# Altium footprint library Agilent LED Display 7-Segment, 4-Digit.PcbLib: 4 footprints
Each footprint in its own frame and in the unit in brackets; x right, y up, seen from the top. Pads: shape width x height; smd on the part's side, far side on the other; paste and mask are expansions set on the pad; w line width, h text height; cw(c..) or ccw(c..) is an arc to the next point about the centre after c.
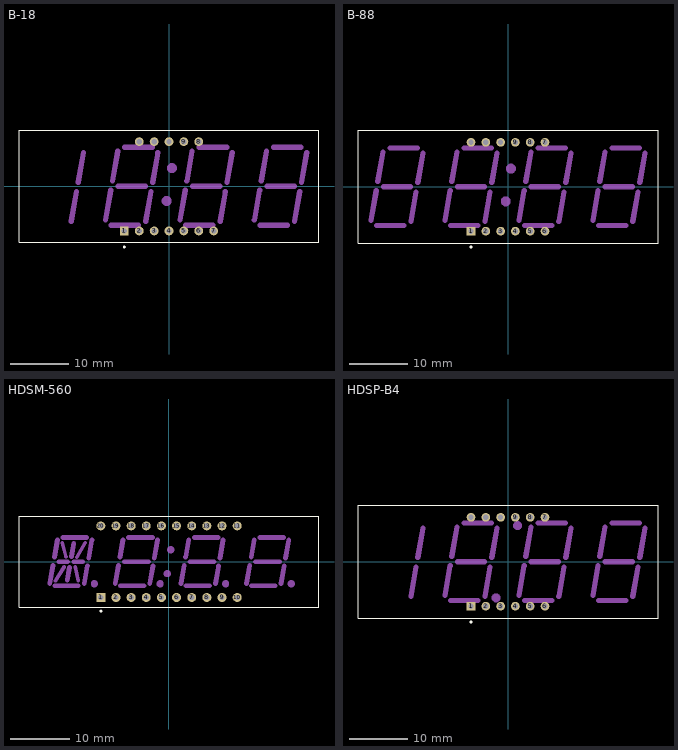
[diagram p0: the footprints below, top view; thin cyan lines are the x and y axes]

## B-18 [mm] "LED, 7-Segment Display, 14.22 mm, Four Digit, 18:88; 12 Leads; Row Space 15.24 mm; Pitch 2.54 mm"
height 8.26
pads (12):
  rect 1.5x1.5 hole 0.9: 1(-7.62,-7.62)
  round 1.5 hole 0.9: 2(-5.08,-7.62) 3(-2.54,-7.62) 4(0,-7.62) 5(2.54,-7.62) 6(5.08,-7.62) 7(7.62,-7.62) 8(5.08,7.62) 9(2.54,7.62) 10(0,7.62) 11(-2.54,7.62) 12(-5.08,7.62)
Top Overlay:
  circle w0.25: c-7.62,-10.35 r0.125
  lines w0.2: -25.6,-9.55 -25.6,9.55 25.6,9.55 25.6,-9.55 -25.6,-9.55
Mechanical 1:
  circle w1.4: c0.505,3.1 r0.15
  circle w1.4: c-0.395,-2.5 r0.15
  lines w0.9: -16.67,-5.95 -15.78,-0.9 ; -15.49,0.71 -14.6,5.76 ; -10.83,-5.76 -9.93,-0.69 ; -9.87,-6.66 -5.2,-6.67 ; -9.65,0.9 -8.76,5.96 ; -8.69,0 -4.03,0 ; -7.53,6.66 -2.86,6.66 ; -3.97,-5.95 -3.08,-0.9 ; -2.79,0.71 -1.9,5.76 ; 1.87,-5.76 2.77,-0.69 ; 2.83,-6.66 7.5,-6.67 ; 3.05,0.9 3.94,5.96 ; 4.01,0 8.67,0 ; 5.17,6.66 9.84,6.66 ; 8.73,-5.95 9.62,-0.9 ; 9.91,0.71 10.8,5.76 ; 14.57,-5.76 15.47,-0.69 ; 15.53,-6.66 20.2,-6.67 ; 15.75,0.9 16.64,5.96 ; 16.71,0 21.37,0 ; 17.87,6.66 22.54,6.66 ; 21.43,-5.95 22.32,-0.9 ; 22.61,0.71 23.5,5.76

## B-88 [mm] "LED, 7-Segment Display, 14.22 mm, Four Digit, 88:88; 12 Leads; Row Space 15.24 mm; Pitch 2.54 mm"
height 8.26
pads (12):
  rect 1.5x1.5 hole 0.9: 1(-6.35,-7.62)
  round 1.5 hole 0.9: 2(-3.81,-7.62) 3(-1.27,-7.62) 4(1.27,-7.62) 5(3.81,-7.62) 6(6.35,-7.62) 7(6.35,7.62) 8(3.81,7.62) 9(1.27,7.62) 10(-1.27,7.62) 11(-3.81,7.62) 12(-6.35,7.62)
Top Overlay:
  circle w0.25: c-6.35,-10.35 r0.125
  lines w0.2: -25.75,-9.7 25.75,-9.7 25.75,9.7 -25.75,9.7 -25.75,-9.7
Mechanical 1:
  circle w1.4: c-0.395,-2.5 r0.15
  circle w1.4: c0.505,3.1 r0.15
  lines w0.9: -23.53,-5.76 -22.63,-0.69 ; -22.57,-6.66 -17.9,-6.67 ; -22.35,0.9 -21.46,5.96 ; -21.39,0 -16.73,0 ; -20.23,6.66 -15.56,6.66 ; -16.67,-5.95 -15.78,-0.9 ; -15.49,0.71 -14.6,5.76 ; -10.83,-5.76 -9.93,-0.69 ; -9.87,-6.66 -5.2,-6.67 ; -9.65,0.9 -8.76,5.96 ; -8.69,0 -4.03,0 ; -7.53,6.66 -2.86,6.66 ; -3.97,-5.95 -3.08,-0.9 ; -2.79,0.71 -1.9,5.76 ; 1.87,-5.76 2.77,-0.69 ; 2.83,-6.66 7.5,-6.67 ; 3.05,0.9 3.94,5.96 ; 4.01,0 8.67,0 ; 5.17,6.66 9.84,6.66 ; 8.73,-5.95 9.62,-0.9 ; 9.91,0.71 10.8,5.76 ; 14.57,-5.76 15.47,-0.69 ; 15.53,-6.66 20.2,-6.67 ; 15.75,0.9 16.64,5.96 ; 16.71,0 21.37,0 ; 17.87,6.66 22.54,6.66 ; 21.43,-5.95 22.32,-0.9 ; 22.61,0.71 23.5,5.76

## HDSM-560 [mm] "LED, 7-Segment Display, 8.9 mm, Four Digit; 20 Leads; Row Space 12 mm; Pitch 2.54 mm"
height 15.75
pads (20):
  rect 1.5x1.5 hole 0.9: 1(-11.43,-6)
  round 1.5 hole 0.9: 2(-8.89,-6) 3(-6.35,-6) 4(-3.81,-6) 5(-1.27,-6) 6(1.27,-6) 7(3.81,-6) 8(6.35,-6) 9(8.89,-6) 10(11.43,-6) 11(11.43,6) 12(8.89,6) 13(6.35,6) 14(3.81,6) 15(1.27,6) 16(-1.27,6) 17(-3.81,6) 18(-6.35,6) 19(-8.89,6) 20(-11.43,6)
Top Overlay:
  circle w0.25: c-11.43,-8.3 r0.125
  lines w0.2: -25.15,-7.65 -25.15,7.65 25.15,7.65 25.15,-7.65 -25.15,-7.65
Mechanical 1:
  circle w1: c20.5,-3.7 r0.1
  circle w1: c9.5,-3.7 r0.1
  circle w1: c-12.5,-3.7 r0.1
  circle w1: c-1.5,-3.7 r0.1
  circle w1: c-0.3,-2 r0.1
  circle w1: c0.3,2 r0.1
  lines w0.6: -19.034,-3.191 -17.564,-0.855 ; -17.92,3.166 -17.267,0.812 ; -15.737,-0.853 -15.184,-3.199 ; -15.451,0.777 -14.06,3.158
  lines w0.8: -19.997,-3.644 -19.453,-0.589 ; -19.212,0.795 -18.707,3.668 ; -19.165,-4.05 -15.201,-4.05 ; -18.488,0 -17,0 ; -17.778,4.05 -13.789,4.05 ; -17.067,-3.1 -16.673,-0.95 ; -16.345,0.869 -15.952,3.074 ; -15.987,0 -14.45,0 ; -14.214,-3.647 -13.683,-0.68 ; -13.465,0.587 -12.93,3.65 ; -8.997,-3.644 -8.453,-0.589 ; -8.212,0.795 -7.707,3.668 ; -8.165,-4.05 -4.201,-4.05 ; -7.488,0 -3.45,0 ; -6.778,4.05 -2.789,4.05 ; -3.214,-3.647 -2.683,-0.68 ; -2.465,0.587 -1.93,3.65 ; 2.003,-3.644 2.547,-0.589 ; 2.788,0.795 3.293,3.668 ; 2.835,-4.05 6.799,-4.05 ; 3.512,0 7.55,0 ; 4.222,4.05 8.211,4.05 ; 7.786,-3.647 8.317,-0.68 ; 8.535,0.587 9.07,3.65 ; 13.003,-3.644 13.547,-0.589 ; 13.788,0.795 14.293,3.668 ; 13.835,-4.05 17.799,-4.05 ; 14.512,0 18.55,0 ; 15.222,4.05 19.211,4.05 ; 18.786,-3.647 19.317,-0.68 ; 19.535,0.587 20.07,3.65

## HDSP-B4 [mm] "LED, 7-Segment Display, 14.22 mm, Four Digit, 18:88; 12 Leads; Row Space 15.24 mm; Pitch 2.54 mm"
height 8.26
pads (12):
  rect 1.5x1.5 hole 0.9: 1(-6.35,-7.62)
  round 1.5 hole 0.9: 2(-3.81,-7.62) 3(-1.27,-7.62) 4(1.27,-7.62) 5(3.81,-7.62) 6(6.35,-7.62) 7(6.35,7.62) 8(3.81,7.62) 9(1.27,7.62) 10(-1.27,7.62) 11(-3.81,7.62) 12(-6.35,7.62)
Top Overlay:
  circle w0.25: c-6.35,-10.35 r0.125
  lines w0.2: -25.75,-9.7 25.75,-9.7 25.75,9.7 -25.75,9.7 -25.75,-9.7
Mechanical 1:
  circle w1.38: c-2.05,-6.2 r0.065
  circle w1.38: c1.65,6.2 r0.065
  lines w0.9: -16.67,-5.95 -15.78,-0.9 ; -15.49,0.71 -14.6,5.76 ; -10.83,-5.76 -9.93,-0.69 ; -9.87,-6.65 -5.2,-6.65 ; -9.65,0.9 -8.76,5.96 ; -8.69,0 -4.03,0 ; -7.53,6.65 -2.86,6.65 ; -3.97,-5.95 -3.08,-0.9 ; -2.79,0.71 -1.9,5.76 ; 1.87,-5.76 2.77,-0.69 ; 2.83,-6.65 7.5,-6.65 ; 3.05,0.9 3.94,5.96 ; 4.01,0 8.67,0 ; 5.17,6.65 9.84,6.65 ; 8.73,-5.95 9.62,-0.9 ; 9.91,0.71 10.8,5.76 ; 14.57,-5.76 15.47,-0.69 ; 15.53,-6.65 20.2,-6.65 ; 15.75,0.9 16.64,5.96 ; 16.71,0 21.37,0 ; 17.87,6.65 22.54,6.65 ; 21.43,-5.95 22.32,-0.9 ; 22.61,0.71 23.5,5.76